# EAGLE library part MCP3428 (library Public)
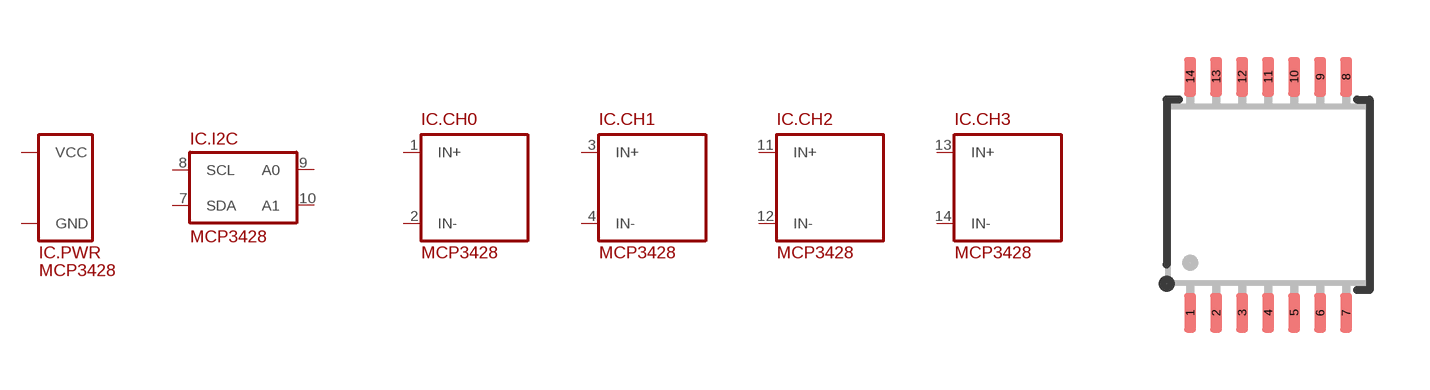
[diagram p152: symbol with the pads of TSSOP14; footprint TSSOP14]

Designator prefix IC; gates .PWR=SUPPLY_VCC/GND .I2C=I2C_DEVICE_2ADDRBITS .CH0=ADC_CHANNEL .CH1=ADC_CHANNEL .CH2=ADC_CHANNEL .CH3=ADC_CHANNEL

## MCP3428  [TSSOP14]
1  .CH0:IN+
2  .CH0:IN-
3  .CH1:IN+
4  .CH1:IN-
5  .PWR:GND
6  .PWR:VCC
7  .I2C:SDA
8  .I2C:SCL
9  .I2C:A0
10  .I2C:A1
11  .CH2:IN+
12  .CH2:IN-
13  .CH3:IN+
14  .CH3:IN-

## Footprint TSSOP14 (pad centres in mm)
smd 0.305 x 0.991: 1 -1.95,-2.95; 2 -1.3,-2.95; 3 -0.65,-2.95; 4 0,-2.95; 5 0.65,-2.95; 6 1.3,-2.95; 7 1.95,-2.95; 8 1.95,2.95; 9 1.3,2.95; 10 0.65,2.95; 11 0,2.95; 12 -0.65,2.95; 13 -1.3,2.95; 14 -1.95,2.95